# EAGLE library part AD5752 (library analog-devices)
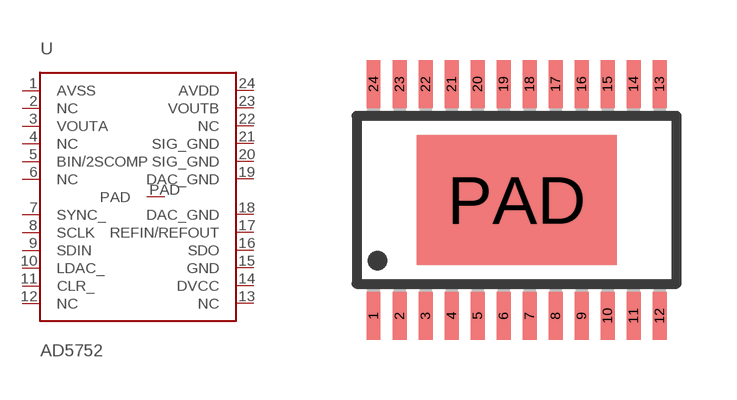
[diagram p37: symbol with the pads of TSSOP24; footprint TSSOP24]

Designator prefix -

## AD5752  [TSSOP24]
1  AVSS
2  NC
3  VOUTA
4  NC
5  BIN/2SCOMP
6  NC
7  SYNC_
8  SCLK
9  SDIN
10  LDAC_
11  CLR_
12  NC
13  NC
14  DVCC
15  GND
16  SDO
17  REFIN/REFOUT
18  DAC_GND
19  DAC_GND
20  SIG_GND
21  SIG_GND
22  NC
23  VOUTB
24  AVDD
PAD  PAD

## Footprint TSSOP24 (pad centres in mm)
smd 0.35 x 1.2: 1 -3.575,-2.9; 2 -2.925,-2.9; 3 -2.275,-2.9; 4 -1.625,-2.9; 5 -0.975,-2.9; 6 -0.325,-2.9; 7 0.325,-2.9; 8 0.975,-2.9; 9 1.625,-2.9; 10 2.275,-2.9; 11 2.925,-2.9; 12 3.575,-2.9; 13 3.575,2.9; 14 2.925,2.9; 15 2.275,2.9; 16 1.625,2.9; 17 0.975,2.9; 18 0.325,2.9; 19 -0.325,2.9; 20 -0.975,2.9; 21 -1.625,2.9; 22 -2.275,2.9; 23 -2.925,2.9; 24 -3.575,2.9
smd 5 x 3.25: PAD 0,0